# EAGLE library part BOARD-CPU-LPC2388-CQ (library mylib)
CPU BOARD : ARM7 LPC2388 (CQ Version)
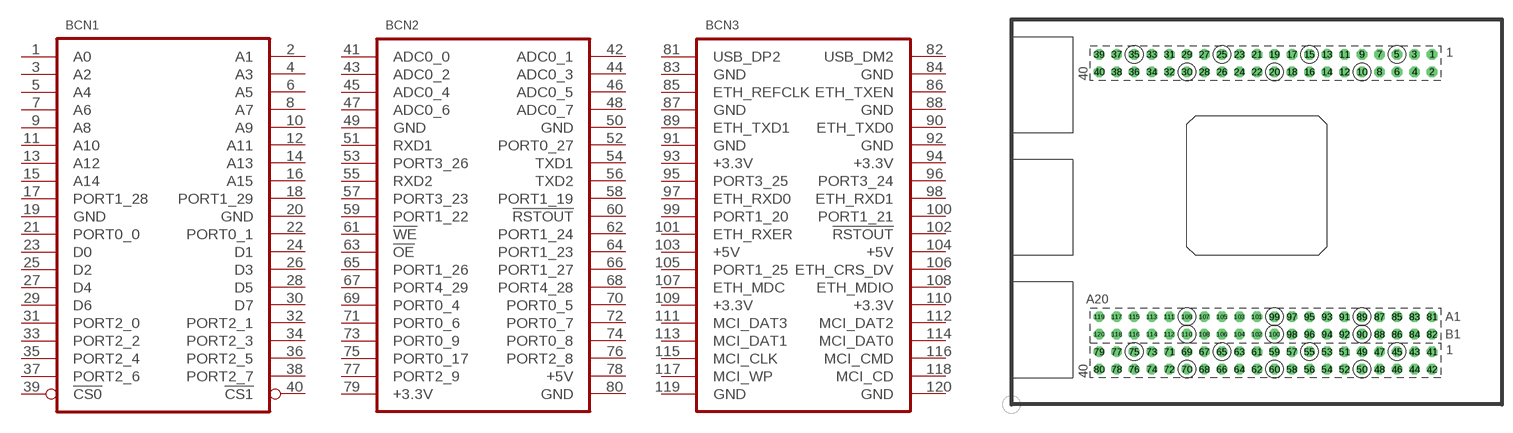
[diagram p64: symbol with the pads of BOARD-CPU-LPC2388-CQ; footprint BOARD-CPU-LPC2388-CQ]

Designator prefix B; gates CN1=BOARD-CPU-LPC2388-CQ-CN1 CN2=BOARD-CPU-LPC2388-CQ-CN2 CN3=BOARD-CPU-LPC2388-CQ-CN3

## BOARD-CPU-LPC2388-CQ  [BOARD-CPU-LPC2388-CQ]
1  CN1:A0
2  CN1:A1
3  CN1:A2
4  CN1:A3
5  CN1:A4
6  CN1:A5
7  CN1:A6
8  CN1:A7
9  CN1:A8
10  CN1:A9
11  CN1:A10
12  CN1:A11
13  CN1:A12
14  CN1:A13
15  CN1:A14
16  CN1:A15
17  CN1:PORT1_28
18  CN1:PORT1_29
19  CN1:GND  pwr
20  CN1:GND  pwr
21  CN1:PORT0_0
22  CN1:PORT0_1
23  CN1:D0
24  CN1:D1
25  CN1:D2
26  CN1:D3
27  CN1:D4
28  CN1:D5
29  CN1:D6
30  CN1:D7
31  CN1:PORT2_0
32  CN1:PORT2_1
33  CN1:PORT2_2
34  CN1:PORT2_3
35  CN1:PORT2_4
36  CN1:PORT2_5
37  CN1:PORT2_6
38  CN1:PORT2_7
39  CN1:!CS0!
40  CN1:!CS1!
41  CN2:ADC0_0
42  CN2:ADC0_1
43  CN2:ADC0_2
44  CN2:ADC0_3
45  CN2:ADC0_4
46  CN2:ADC0_5
47  CN2:ADC0_6
48  CN2:ADC0_7
49  CN2:GND  pwr
50  CN2:GND  pwr
51  CN2:RXD1
52  CN2:PORT0_27
53  CN2:PORT3_26
54  CN2:TXD1
55  CN2:RXD2
56  CN2:TXD2
57  CN2:PORT3_23
58  CN2:PORT1_19
59  CN2:PORT1_22
60  CN2:!RSTOUT!
61  CN2:!WE!
62  CN2:PORT1_24
63  CN2:!OE!
64  CN2:PORT1_23
65  CN2:PORT1_26
66  CN2:PORT1_27
67  CN2:PORT4_29
68  CN2:PORT4_28
69  CN2:PORT0_4
70  CN2:PORT0_5
71  CN2:PORT0_6
72  CN2:PORT0_7
73  CN2:PORT0_9
74  CN2:PORT0_8
75  CN2:PORT0_17
76  CN2:PORT2_8
77  CN2:PORT2_9
78  CN2:+5V  pwr
79  CN2:+3.3V  pwr
80  CN2:GND  pwr
81  CN3:USB_DP2
82  CN3:USB_DM2
83  CN3:GND  pwr
84  CN3:GND  pwr
85  CN3:ETH_REFCLK
86  CN3:ETH_TXEN
87  CN3:GND  pwr
88  CN3:GND  pwr
89  CN3:ETH_TXD1
90  CN3:ETH_TXD0
91  CN3:GND  pwr
92  CN3:GND  pwr
93  CN3:+3.3V  pwr
94  CN3:+3.3V  pwr
95  CN3:PORT3_25
96  CN3:PORT3_24
97  CN3:ETH_RXD0
98  CN3:ETH_RXD1
99  CN3:PORT1_20
100  CN3:PORT1_21
101  CN3:ETH_RXER
102  CN3:!RSTOUT!
103  CN3:+5V  pwr
104  CN3:+5V  pwr
105  CN3:PORT1_25
106  CN3:ETH_CRS_DV
107  CN3:ETH_MDC
108  CN3:ETH_MDIO
109  CN3:+3.3V  pwr
110  CN3:+3.3V  pwr
111  CN3:MCI_DAT3
112  CN3:MCI_DAT2
113  CN3:MCI_DAT1
114  CN3:MCI_DAT0
115  CN3:MCI_CLK
116  CN3:MCI_CMD
117  CN3:MCI_WP
118  CN3:MCI_CD
119  CN3:GND  pwr
120  CN3:GND  pwr

## Footprint BOARD-CPU-LPC2388-CQ (pad centres in mm)
CPU BOARD ARM7 LPC2388 (CQ Version)
drill 1.016 octagon: 1 60.96,50.8; 2 60.96,48.26; 3 58.42,50.8; 4 58.42,48.26; 5 55.88,50.8; 6 55.88,48.26; 7 53.34,50.8; 8 53.34,48.26; 9 50.8,50.8; 10 50.8,48.26; 11 48.26,50.8; 12 48.26,48.26; 13 45.72,50.8; 14 45.72,48.26; 15 43.18,50.8; 16 43.18,48.26; 17 40.64,50.8; 18 40.64,48.26; 19 38.1,50.8; 20 38.1,48.26; 21 35.56,50.8; 22 35.56,48.26; 23 33.02,50.8; 24 33.02,48.26; 25 30.48,50.8; 26 30.48,48.26; 27 27.94,50.8; 28 27.94,48.26; 29 25.4,50.8; 30 25.4,48.26; 31 22.86,50.8; 32 22.86,48.26; 33 20.32,50.8; 34 20.32,48.26; 35 17.78,50.8; 36 17.78,48.26; 37 15.24,50.8; 38 15.24,48.26; 39 12.7,50.8; 40 12.7,48.26; 41 60.96,7.62; 42 60.96,5.08; 43 58.42,7.62; 44 58.42,5.08; 45 55.88,7.62; 46 55.88,5.08; 47 53.34,7.62; 48 53.34,5.08; 49 50.8,7.62; 50 50.8,5.08; 51 48.26,7.62; 52 48.26,5.08; 53 45.72,7.62; 54 45.72,5.08; 55 43.18,7.62; 56 43.18,5.08; 57 40.64,7.62; 58 40.64,5.08; 59 38.1,7.62; 60 38.1,5.08; 61 35.56,7.62; 62 35.56,5.08; 63 33.02,7.62; 64 33.02,5.08; 65 30.48,7.62; 66 30.48,5.08; 67 27.94,7.62; 68 27.94,5.08; 69 25.4,7.62; 70 25.4,5.08; 71 22.86,7.62; 72 22.86,5.08; 73 20.32,7.62; 74 20.32,5.08; 75 17.78,7.62; 76 17.78,5.08; 77 15.24,7.62; 78 15.24,5.08; 79 12.7,7.62; 80 12.7,5.08; 81 60.96,12.7; 82 60.96,10.16; 83 58.42,12.7; 84 58.42,10.16; 85 55.88,12.7; 86 55.88,10.16; 87 53.34,12.7; 88 53.34,10.16; 89 50.8,12.7; 90 50.8,10.16; 91 48.26,12.7; 92 48.26,10.16; 93 45.72,12.7; 94 45.72,10.16; 95 43.18,12.7; 96 43.18,10.16; 97 40.64,12.7; 98 40.64,10.16; 99 38.1,12.7; 100 38.1,10.16; 101 35.56,12.7; 102 35.56,10.16; 103 33.02,12.7; 104 33.02,10.16; 105 30.48,12.7; 106 30.48,10.16; 107 27.94,12.7; 108 27.94,10.16; 109 25.4,12.7; 110 25.4,10.16; 111 22.86,12.7; 112 22.86,10.16; 113 20.32,12.7; 114 20.32,10.16; 115 17.78,12.7; 116 17.78,10.16; 117 15.24,12.7; 118 15.24,10.16; 119 12.7,12.7; 120 12.7,10.16